# Altium footprint library Sensor-Transductor.PcbLib: 32 footprints (part 1 of 2)
Each footprint in its own frame and in the unit in brackets; x right, y up, seen from the top. Pads: shape width x height; smd on the part's side, far side on the other; paste and mask are expansions set on the pad; w line width, h text height; cw(c..) or ccw(c..) is an arc to the next point about the centre after c.
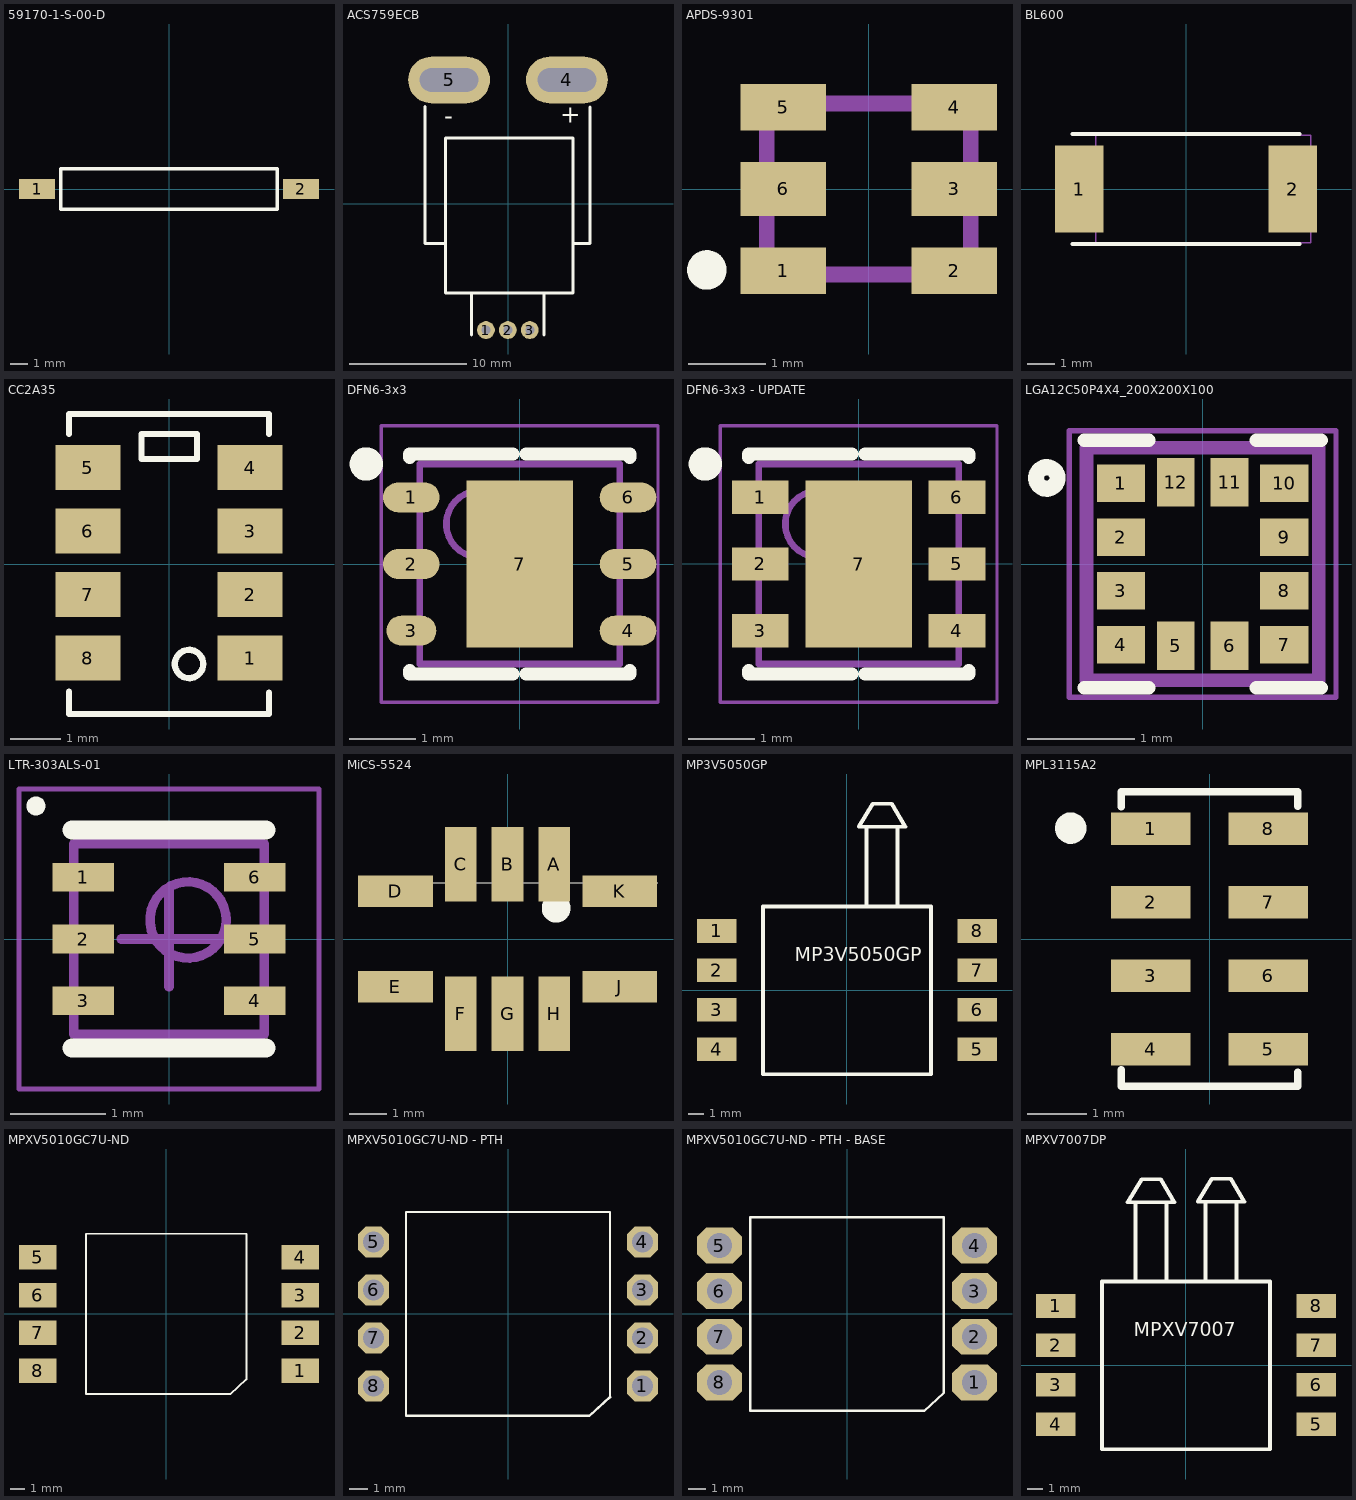
[diagram p0: the footprints below, top view; thin cyan lines are the x and y axes]

## 59170-1-S-00-D [mm] "SWITCH REED SPST-NO"
pads (2):
  rect 2.03x1.14 smd: 1(-7.425,0) 2(7.425,0)
Top Overlay:
  lines w0.2: -6.096,-1.143 -6.096,1.143 6.096,1.143 6.096,-1.143 -6.096,-1.143
3D body: height 0.25, standoff 0, extent -2.853,0.508 -2.853,0.508
3D body "Standex-Meder Electronics-MK16-x-2_WEB.step": height 2.41, standoff 0.01, extent -7.732,-1.15 7.868,1.15

## ACS759ECB [mm]
pads (5):
  round 1.524 hole 0.762: 1(-1.887,-10.775) 2(-0.012,-10.775) 3(1.863,-10.775)
  oval 7x4 hole 2 slot 5 at 0 deg: 4(5.038,10.6) 5(-5.038,10.6)
Top Overlay:
  lines w0.254: -7.075,8.35 -7.075,-3.375 -5.4,-3.375 ; -3.125,-11.175 -3.125,-7.625 ; 3.075,-11.175 3.075,-7.625 ; 5.55,-3.375 7.025,-3.375 7.025,8.3 ; -5.325,-7.625 5.55,-7.625 5.55,5.625 -5.325,5.625 -5.325,-7.625
  text "-" at -5.45,6.825 h1.52
  text "+" at 4.475,6.95 h1.52
3D body "User Library-ACS758xCB-PFF.STEP": height 7.01, standoff -3.47, extent -7.025,-11.05 6.975,11.36

## APDS-9301 [mm]
pads (6):
  rect 1.1x0.6 smd: 1(-1.1,-1.05) 2(1.1,-1.05) 4(1.1,1.05) 5(-1.1,1.05)
  rect 1.1x0.7 smd: 3(1.1,0) 6(-1.1,0)
Top Overlay:
  circle w0.254: c-2.083,-1.041 r0.127
Mechanical 1:
  lines w0.2: -1.31,-1.1 1.31,-1.1 1.31,1.1 -1.31,1.1 -1.31,-1.1
3D body "User Library-APDS-9301.step": height 0.56, standoff 0, extent -1.31,-1.1 1.31,1.1

## BL600 [mil]
pads (2):
  rect 70.87x125.98 smd: 1(-155,0) 2(155,0)
Top Overlay:
  lines w5.91: -165,-80 165,-80 ; -165,80 165,80
Mechanical 27:
  lines w2: -131.42,-78.07 181.42,-78.07 181.42,78.07 -131.42,78.07 -131.42,-78.07
3D body: height 90.53, standoff 66.95, extent 168.9,-13.53 181.1,10
3D body: height 90.53, standoff 66.95, extent -179.41,-11.76 -167.21,11.77
3D body: height 157.48, standoff 0, extent 155,-78.73 167.2,78.75
3D body: height 157.48, standoff 0, extent -167.21,-78.74 -155,78.74
3D body: height 157.48, standoff 0, extent -155,-80 155,80

## CC2A35 [mm]
pads (8):
  rect 1.3x0.9 smd: 1(1.62,-1.885) 2(1.62,-0.615) 3(1.62,0.655) 4(1.62,1.925) 5(-1.62,1.925) 6(-1.62,0.655) 7(-1.62,-0.615) 8(-1.62,-1.885)
Top Overlay:
  circle w0.127: c0.4,-2 r0.283
  lines w0.127: -2,-2.55 -2,-3 2,-3 2,-2.575 ; -2,2.6 -2,3 2,3 2,2.6 ; -0.55,2.1 -0.55,2.6 0.56,2.6 0.56,2.1 -0.55,2.1
3D body "User Library-CC2D23.STEP": height 1.9, standoff -0.01, extent -2.01,-3 2,3

## DFN6-3x3 [mm]
height 1.21
pads (7):
  oval 0.85x0.45 smd: 1(-1.625,1) 2(-1.625,0) 4(1.625,-1) 5(1.625,0) 6(1.625,1)
  oval 0.75x0.45 smd: 3(-1.625,-1)
  rect 1.6x2.5 smd: 7(0,0)
Top Overlay:
  circle w0.25: c-2.3,1.5 r0.125
  lines w0.2: -1.65,-1.6 -1.65,-1.65 -0.1,-1.65 ; -1.65,1.6 -1.65,1.65 -0.1,1.65 ; 0.1,-1.65 1.65,-1.65 1.65,-1.6 ; 0.1,1.65 1.65,1.65 1.65,1.6
Mechanical 13:
  circle w0.1: c-0.6,0.6 r0.5
  lines w0.1: -1.5,-1.5 1.5,-1.5 1.5,1.5 -1.5,1.5 -1.5,-1.5
Mechanical 15:
  lines w0.05: -2.075,-2.075 2.075,-2.075 2.075,2.075 -2.075,2.075 -2.075,-2.075
  lines w0.1: -0.5,0 0.5,0 ; 0,-0.5 0,0.5
3D body "DFN6-3x3.step": height 1.21, standoff 0, extent -1.52,-1.5 1.52,1.5

## DFN6-3x3 - UPDATE [mm]
height 1.21
pads (7):
  rect 0.85x0.5 smd mask+0.068: 1(-1.475,1) 2(-1.475,0) 3(-1.475,-1) 4(1.475,-1) 5(1.475,0) 6(1.475,1)
  rect 1.6x2.5 smd mask+0.068: 7(0,0)
Top Overlay:
  circle w0.25: c-2.3,1.5 r0.125
  lines w0.2: -1.65,-1.6 -1.65,-1.65 -0.1,-1.65 ; -1.65,1.6 -1.65,1.65 -0.1,1.65 ; 0.1,-1.65 1.65,-1.65 1.65,-1.6 ; 0.1,1.65 1.65,1.65 1.65,1.6
Mechanical 13:
  circle w0.1: c-0.6,0.6 r0.5
  lines w0.1: -1.5,-1.5 -1.5,1.5 1.5,1.5 1.5,-1.5 -1.5,-1.5
Mechanical 15:
  lines w0.05: -2.075,-2.075 -2.075,2.075 2.075,2.075 2.075,-2.075 -2.075,-2.075
  lines w0.1: -0.5,0 0.5,0 ; 0,-0.5 0,0.5
3D body "DFN6-3x3.step": height 1.21, standoff 0, extent -1.52,-1.5 1.52,1.5

## LGA12C50P4X4_200X200X100 [mm] "LGA, 12-Leads, Body 2,00x2,00mmx1,00mm, Pitch 0,50mm"
height 1
pads (12):
  rect 0.45x0.35 smd: 1(-0.76,0.75) 2(-0.76,0.25) 3(-0.76,-0.25) 4(-0.76,-0.75) 7(0.76,-0.75) 8(0.76,-0.25) 9(0.76,0.25) 10(0.76,0.75)
  rect 0.35x0.45 smd: 5(-0.25,-0.76) 6(0.25,-0.76) 11(0.25,0.76) 12(-0.25,0.76)
Top Overlay:
  circle w0.15: c-1.45,0.8 r0.1
  lines w0.127: -1.1,-1.15 -0.5,-1.15 ; -1.1,1.15 -0.5,1.15 ; 0.5,-1.15 1.1,-1.15 ; 0.5,1.15 1.1,1.15
Courtyard Top:
  lines w0.127: -1.08,-1.08 1.08,-1.08 ; -1.08,-1.08 -1.08,1.08 ; -1.08,-1.08 1.08,-1.08 ; -1.08,-1.08 -1.08,1.08 ; -1.08,1.08 1.08,1.08 ; -1.08,1.08 1.08,1.08 ; 1.08,-1.08 1.08,1.08 ; 1.08,-1.08 1.08,1.08
Mechanical 16:
  lines w0.05: -1.24,-1.24 1.24,-1.24 1.24,1.24 -1.24,1.24 -1.24,-1.24
3D body "LGA12C50P4X4_200X200X100.step": height 1, standoff 0, extent -1,-1 1,1

## LTR-303ALS-01 [mm]
height 0.7
pads (6):
  rect 0.65x0.3 smd: 1(-0.9,0.65) 2(-0.9,0) 3(-0.9,-0.65) 4(0.9,-0.65) 5(0.9,0) 6(0.9,0.65)
Top Overlay:
  circle w0.1: c-1.397,1.397 r0.05
  lines w0.2: -1.016,-1.143 1.016,-1.143 ; -1.016,1.143 1.016,1.143
Assembly Top:
  circle w0.1: c0.2,0.2 r0.4
  lines w0.1: -1,-1 1,-1 1,1 -1,1 -1,-1
Courtyard Top:
  lines w0.05: -1.575,-1.575 1.575,-1.575 1.575,1.575 -1.575,1.575 -1.575,-1.575
  lines w0.1: -0.5,0 0.5,0 ; 0,-0.5 0,0.5
3D body: height 0.7, standoff 0.01, extent -1,-1 1,1

## MiCS-5524 [mm]
pads (10):
  rect 0.85x2 smd: A(1.25,2) B(0,2) C(-1.25,2) F(-1.25,-2) G(0,-2) H(1.25,-2)
  rect 2x0.85 smd: D(-3,1.275) E(-3,-1.275) J(3,-1.275) K(3,1.275)
Top Overlay:
  circle w0.5: c1.3,0.825 r0.135
  lines w0.001: -3.925,1.5 4.025,1.5
3D body "MiCS-5524.stp": height 1.31, standoff 0.01, extent -3.5,-2.5 3.5,2.5

## MP3V5050GP [mm]
pads (8):
  rect 2.54x1.524 smd: 1(-8.38,3.81) 2(-8.38,1.27) 3(-8.38,-1.27) 4(-8.38,-3.81) 5(8.38,-3.81) 6(8.38,-1.27) 7(8.38,1.27) 8(8.38,3.81)
Top Overlay:
  lines w0.254: 0,5.39 2.25,5.39 ; 1,5.39 1.02,5.39 ; 1.26,5.46 1.26,10.51 ; 3.26,5.42 3.26,10.51 ; -5.4,-5.41 5.4,-5.41 5.4,5.39 -5.4,5.39 -5.4,-5.41 ; 0.76,10.51 1.67,11.99 2.26,11.99 2.878,11.99 3.76,10.51 0.76,10.51
  text "MP3V5050GP" at -3.37,1.55 h1.52
3D body "SENSOR DE PRESION.stp": height 8.03, standoff 0.01, extent -8.8,-5.937 9.41,12.717

## MPL3115A2 [mm]
pads (8):
  rect 1.35x0.55 smd: 1(-1,1.875) 2(-1,0.625) 3(-1,-0.625) 4(-1,-1.875) 5(1,-1.875) 6(1,-0.625) 7(1,0.625) 8(1,1.875)
Top Overlay:
  circle w0.3: c-2.36,1.885 r0.117
  lines w0.127: -1.5,-2.225 -1.5,-2.5 1.5,-2.5 1.5,-2.265 ; -1.5,2.245 -1.5,2.5 1.5,2.5 1.5,2.255
3D body "User Library-MPL3115A2.STEP": height 1.11, standoff 0.01, extent -1.54,-2.515 1.46,2.485

## MPXV5010GC7U-ND [mm]
pads (8):
  rect 2.54x1.65 smd: 1(9.015,-3.81) 2(9.015,-1.27) 3(9.015,1.27) 4(9.015,3.81) 5(-8.634,3.81) 6(-8.634,1.27) 7(-8.634,-1.27) 8(-8.634,-3.81)
Top Overlay:
  lines w0.127: 4.3,-5.4 5.4,-4.4 ; 4.3,-5.395 -5.395,-5.395 -5.395,5.395 5.395,5.395 5.395,-4.4
3D body "User Library-Integrated Silicon Pressure Sensor-1.step": height 12.8, standoff 0.01, extent -9.144,-5.612 9.456,5.588

## MPXV5010GC7U-ND - PTH [mm]
pads (8):
  oct 1.65x1.65 hole 1.1: 1(7.11,-3.81) 2(7.11,-1.27) 3(7.11,1.27) 4(7.11,3.81) 5(-7.11,3.81) 6(-7.11,1.27) 7(-7.11,-1.27) 8(-7.11,-3.81)
Top Overlay:
  lines w0.127: 4.3,-5.4 5.4,-4.4 ; 4.3,-5.395 -5.395,-5.395 -5.395,5.395 5.395,5.395 5.395,-4.4
3D body "MPXV5010GC7U.step": height 12.97, standoff -2.78, extent -7.087,-5.664 7.137,5.664

## MPXV5010GC7U-ND - PTH - BASE [mm]
pads (8):
  oct 2.5x2 hole 1.4: 1(7.11,-3.81) 2(7.11,-1.27) 3(7.11,1.27) 4(7.11,3.81) 5(-7.11,3.81) 6(-7.11,1.27) 7(-7.11,-1.27) 8(-7.11,-3.81)
Top Overlay:
  lines w0.127: 4.3,-5.4 5.4,-4.4 ; 4.3,-5.395 -5.395,-5.395 -5.395,5.395 5.395,5.395 5.395,-4.4
3D body "pcb_connector_310-87-104-41-001101.stp": height 2.8, standoff -4.57, extent -8.365,-5.08 -5.825,5.08
3D body "MPXV5010GC7U.step": height 15.45, standoff -0.29, extent -7.087,-5.664 7.137,5.664
3D body "pcb_connector_310-87-104-41-001101.stp": height 2.8, standoff -4.57, extent 5.855,-5.085 8.395,5.075

## MPXV7007DP [mm]
pads (8):
  rect 2.54x1.524 smd: 1(-8.38,3.81) 2(-8.38,1.27) 3(-8.38,-1.27) 4(-8.38,-3.81) 5(8.38,-3.81) 6(8.38,-1.27) 7(8.38,1.27) 8(8.38,3.81)
Top Overlay:
  lines w0.254: -3.25,5.43 -3.25,10.48 ; -1.25,5.39 -1.25,10.48 ; 0,5.39 2.25,5.39 ; 1,5.39 1.02,5.39 ; 1.26,5.46 1.26,10.51 ; 3.26,5.42 3.26,10.51 ; -5.4,-5.41 -5.4,5.39 5.4,5.39 5.4,-5.41 -5.4,-5.41 ; -3.75,10.48 -2.84,11.96 -2.25,11.96 -1.632,11.96 -0.75,10.48 -3.75,10.48 ; 0.76,10.51 3.76,10.51 2.878,11.99 2.26,11.99 1.67,11.99 0.76,10.51
  text "MPXV7007" at -3.37,1.55 h1.52
3D body "SOP dual_output_MPX.STEP": height 9.95, standoff -0.21, extent -8.712,-6.083 8.814,12.332